# Altium schematic symbol library NodeMCU1.0.SCHLIB: 45 symbols
Pins are listed as number, name and electrical type; pins without a type are passive.

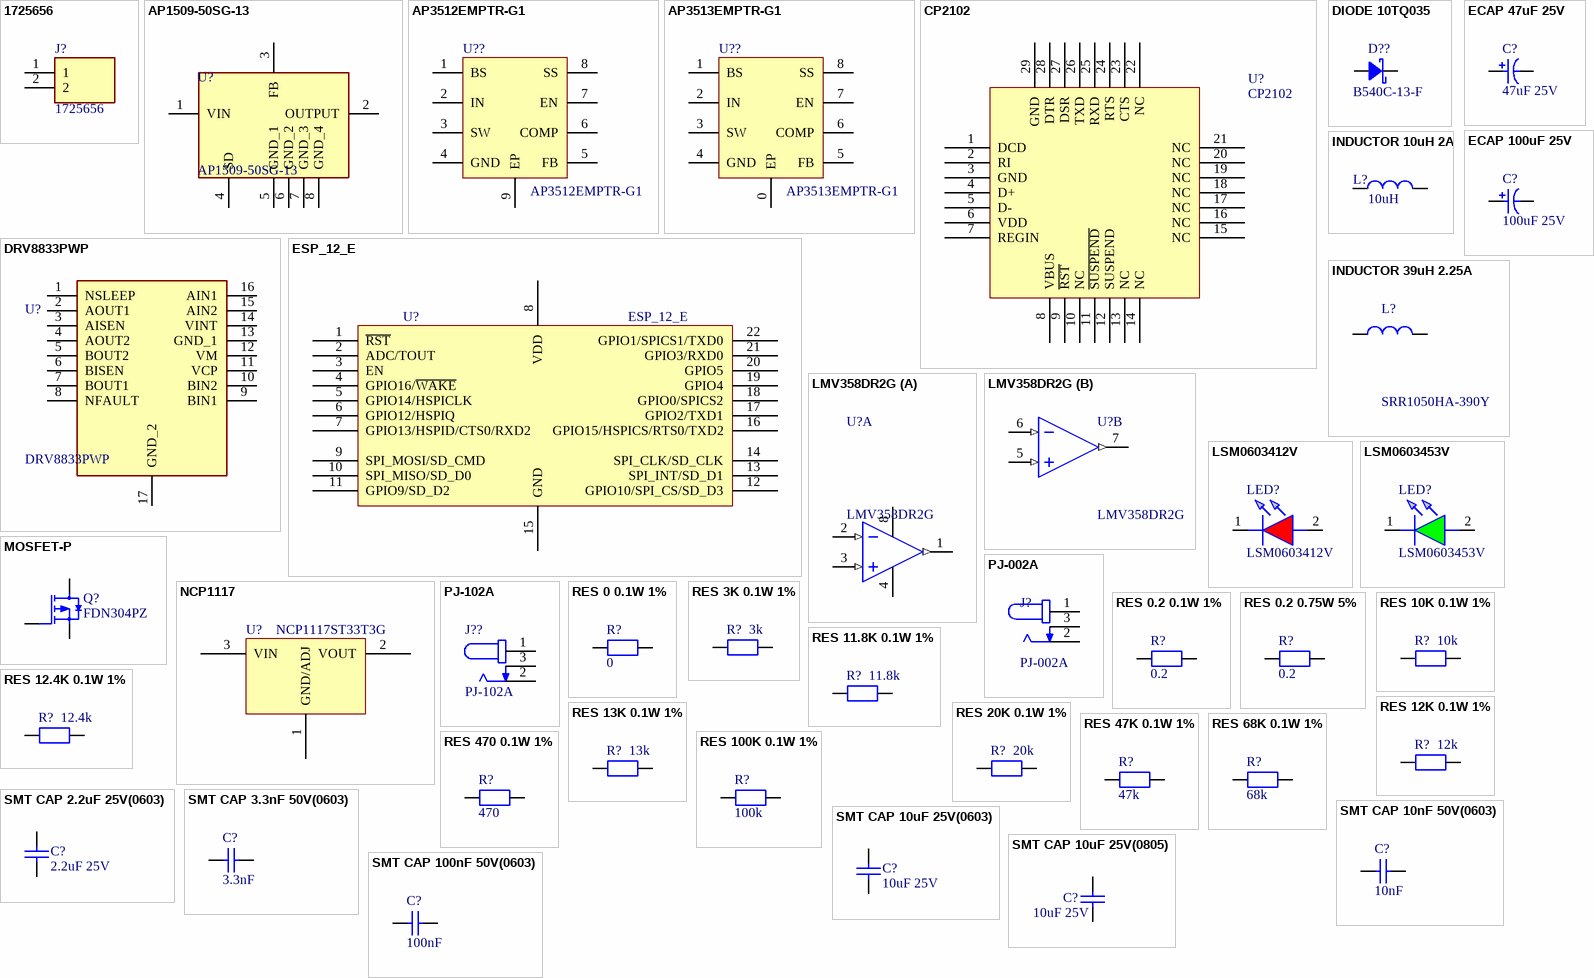
[diagram p0: symbols 1725656 to SMT CAP 100nF 50V(0603)]

## 1725656
designator J?
PCB terminal block, nominal current: 6 A, rated voltage (III/2): 160 V, nominal cross section: 0.5 mm?, Number of potentials: 2, Number of rows: 1, Number of positions per row: 2, product range: MPT 0,5, pitch: 2.54 mm, connection method: Screw connection with tension sleeve, mounting: Wave soldering, conductor/PCB connection direction: 0 ?, color: green, Pin layout: Linear pinning, Solder pin [P]: 3.5 mm, type of packaging: packed in cardboard; Manufacturer: Phoenix Contact; Supplier Part Number: 651-1725656; Supplier: Mouser; Manufacturer Part Number: 1725656; Value: 1725656; Price: 1.96
footprint 1725656
pins: 1, 2

## AP1509-50SG-13
designator U?
DiodesZetex, AP1509-50SG-13 DC-DC Converter 2A 8-Pin, SOP; Manufacturer: Diodes Inc.; Supplier Part Number: 621-AP1509-50SG-13; Supplier: Mouser; Manufacturer Part Number: AP1509-50SG-13; Price: 1.2; Value: AP1509-50SG-13
footprint SOIC127P600X175-8N
pins: 1 VIN, 2 OUTPUT, 3 FB, 4 SD, 5 GND_1, 6 GND_2, 7 GND_3, 8 GND_4

## AP3512EMPTR-G1
designator U??
Buck Switching Regulator IC Positive Adjustable 0.925V 1 Output 2A 8-SOIC (0.154", 3.90mm Width) Exposed Pad; Manufacturer: Diodes; Manufacturer Part Number: AP3512EMPTR-G1; Supplier: Digi-key; Supplier Part Number: AP3512EMPTR-G1DITR-ND; Value: AP3512EMPTR-G1; Price: 0.6
footprint SOIC127P600X155-9N
pins: 1 BS, 2 IN, 3 SW, 4 GND, 5 FB, 6 COMP, 7 EN, 8 SS, 9 EP

## AP3513EMPTR-G1
designator U??
Switching Voltage Regulators 18V 3A Sync Buck DC/DC 4.5V to 18V; Manufacturer: Diodes; Manufacturer Part Number: AP3513EMPTR-G1; Supplier: Mouser; Supplier Part Number: 621-AP3513EMPTR-G1; Value: AP3513EMPTR-G1; Price: *
footprint SOIC-8(EP)
pins: 0 EP, 1 BS, 2 IN, 3 SW, 4 GND, 5 FB, 6 COMP, 7 EN, 8 SS

## CP2102
designator U?
USB Interface IC USBXpress - USB to UART Bridge QFN28; Manufacturer Part Number: CP2102N-A02-GQFN28; Manufacturer: Silicon Labs; Value: CP2102N-A02-GQFN28; Supplier Part Number: 634-CP2102NA02GQFN28; Supplier: Mouser; Price: 3.75
footprint CP2102
pins: 1 DCD, 2 RI, 3 GND, 4 D+, 5 D-, 6 VDD, 7 REGIN, 8 VBUS, 9 ~{RST}, 10 NC, 11 ~{SUSPEND}, 12 SUSPEND, 13 NC, 14 NC, 15 NC, 16 NC, 17 NC, 18 NC, 19 NC, 20 NC, 21 NC, 22 NC, 23 CTS, 24 RTS, 25 RXD, 26 TXD, 27 DSR, 28 DTR, 29 GND

## DIODE 10TQ035
designator D??, comment B540C-13-F
DIODE SCHOTTKY 40V 5A SMC; Manufacturer: Diodes; Value: B540C-13-F; Manufacturer Part Number: B540C-13-F; Supplier: Mouser; Supplier Part Number: 621-B540C-F; Price: 0.5
footprint B540C-13-F
pins: A, K

## DRV8833PWP
designator U?
Motor/Motion/Ignition Controllers & Drivers 2A LO VLTG BIPOLAR STEPPER MOTOR DRIVER; Manufacturer: Texas Instruments; Supplier Part Number: 595-DRV8833PWP; Supplier: Mouser; Manufacturer Part Number: DRV8833PW; Price: 3; Value: DRV8833PWP
footprint SOP65P640X120-17N
pins: 1 NSLEEP, 2 AOUT1, 3 AISEN, 4 AOUT2, 5 BOUT2, 6 BISEN, 7 BOUT1, 8 NFAULT, 9 BIN1, 10 BIN2, 11 VCP, 12 VM, 13 GND_1, 14 VINT, 15 AIN2, 16 AIN1, 17 GND_2

## ECAP 47uF 25V
designator C?, comment 47uF 25V
Aluminium Electrolytic Capacitors - Radial Leaded 25V 47uF 85C 2k Hour Radial; Manufacturer: Kemet; Manufacturer Part Number: ESK476M025AC3FA; Value: 47uF 25V; Supplier: mouser; Supplier Part Number: 80-ESK476M025AC3FA; Price: 0.25
footprint CAPPRD250W50D630H1250
pins: 1, 2

## ECAP 100uF 25V
designator C?, comment 100uF 25V
Aluminium Electrolytic Capacitors - Radial Leaded 25V 100uF 85C 2k Hour Radial; Manufacturer: Kemet; Manufacturer Part Number: ESK107M025AE3AA; Value: 100uF 25V; Supplier: mouser; Supplier Part Number: 80-ESK107M025AE3AA; Price: 0.24
footprint CAPPRD250W50D630H1250
pins: 1, 2

## ESP_12_E
designator U?
ESP-12 Wi-Fi Module by AI-Thinker; Manufacturer Part Number: ESP-12E; Manufacturer: china; Value: ESP-12E; Price: 1.46
footprint ESP_12_E (ESP-12 Wi-Fi Module by AI-Thinker)
footprint ESP_12_E_L (ESP-12 Wi-Fi Module by AI-Thinker)
pins: 1 ~{RST} "Reset", 2 ADC/TOUT "ADC Input Or TOUT Output", 3 EN "Chip enable", 4 GPIO16/~{WAKE} "GPIO16 or Deep-Sleep Wakeup", 5 GPIO14/HSPICLK "GPIO14 or SPI CLK", 6 GPIO12/HSPIQ "GPIO12 or SPIQ", 7 GPIO13/HSPID/CTS0/RXD2 "GPIO13 or SPID", 8 VDD "Power supply", 9 SPI_MOSI/SD_CMD "GPIO14 or SPI CLK", 10 SPI_MISO/SD_D0 "GPIO12 or SPIQ", 11 GPIO9/SD_D2 "GPIO13 or SPID", 12 GPIO10/SPI_CS/SD_D3 "GPIO15 or SPICS", 13 SPI_INT/SD_D1 "GPIO2 or TX", 14 SPI_CLK/SD_CLK "GPIO0 or SPICS2", 15 GND "Power ground", 16 GPIO15/HSPICS/RTS0/TXD2 "GPIO15 or SPICS", 17 GPIO2/TXD1 "GPIO2 or TX", 18 GPIO0/SPICS2 "GPIO0 or SPICS2", 19 GPIO4 "GPIO5", 20 GPIO5 "GPIO4", 21 GPIO3/RXD0 "GPIO3 or UART RXD", 22 GPIO1/SPICS1/TXD0 "GPIO1 or UART TXD"

## INDUCTOR 10uH 2A
designator L?, comment 10uH
FIXED IND 10UH 2.1A 72.8 MOHM; Manufacturer Part Number: NRS5040T100MMGJ; Manufacturer: Taiyo Yuden; Supplier: Mouser; Supplier Part Number: 963-NRS5040T100MMGJ; Value: 10uH
simulation model INDUCTOR (Inductor)
signal-integrity model Inductor
footprint NRS5040T100MMGJ
pins: 1, 2

## INDUCTOR 39uH 2.25A
designator L?, comment SRR1050HA-390Y
Ind,10x10.2x4.8mm,39uH+/-30%,2.25A,shd; Manufacturer: Bourns; Value: 39uH 2.25A; Supplier Part Number: 652-SRR1050HA-390Y; Supplier: Mouser; Manufacturer Part Number: SRR1050HA-390Y; Price: 1.44
footprint INDPM102100X510N
pins: 1, 2

## LMV358DR2G
designator U?
Operational Amplifiers - Op Amps LV R2R DUAL OP AMP; Manufacturer: onsemi; Supplier Part Number: 863-LMV358DR2G; Supplier: Mouser; Manufacturer Part Number: LMV358DR2G; Price: 0.6; Value: LMV358DR2G
footprint SOIC127P600X175-8N
part A pins: 1 OUT_A (out), 2 IN_A- (in), 3 IN_A+ (in), 4 V-, 8 V+
part B pins: 5 IN_B+ (in), 6 IN_B- (in), 7 OUT_B (out)

## LSM0603412V
designator LED?
Standard LEDs - SMD SMD 0603 2V 100mcd RED; Manufacturer: Visual Communications Company; Supplier Part Number: 593-LSM0603412V; Supplier: Mouser; Manufacturer Part Number: LSM0603412V; Value: LSM0603412V; Price: 0.4
footprint LSM0603412V
pins: 1 K, 2 A

## LSM0603453V
designator LED?
Standard LEDs - SMD SMD 0603 3V 1000mcd GREEN; Manufacturer: Visual Communications Company; Supplier Part Number: 593-LSM0603453V; Supplier: Mouser; Manufacturer Part Number: LSM0603453V; Price: 0.4; Value: LSM0603453V
footprint LEDC1608X55N
pins: 1 K, 2 A

## MOSFET-P
designator Q?, comment FDN304PZ
MOSFET P-Ch PowerTrench Specified 1.8V; Manufacturer: onsemi / Fairchild; Supplier Part Number: 512-FDN304PZ; Supplier: Mouser; Manufacturer Part Number: FDN304PZ; Value: FDN304PZ; Price: 0.6
simulation model PMOS (MOSFET-P)
footprint SOT95P251X112-3N
pins: 1 G, 2 S, 3 D

## NCP1117
designator U?, comment NCP1117ST33T3G
LDO Voltage Regulators 3.3V 1A Positive; Manufacturer: onsemi; Manufacturer Part Number: NCP1117ST33T3G; Supplier Part Number: 863-NCP1117ST33T3G; Supplier: Mouser; Value: NCP1117ST33T3G; Price: 0.68
footprint SOT-223 (3 LEAD SOT-223 PLASTIC PACKAGE)
pins: 1 GND/ADJ "Ground or Adjust", 2 VOUT "Voltage Output", 3 VIN "Voltage Input"

## PJ-002A
designator J?
CONN PWR JACK 2X5.5MM SOLDER; Manufacturer: CUI Devices; Supplier Part Number: 490-PJ-002A; Supplier: Mouser; Manufacturer Part Number: PJ-002A; Value: PJ-002A; Price: 0.7
footprint PJ002A
pins: 1, 2, 3

## PJ-102A
designator J??
CONN PWR JACK 2X5.5MM SOLDER; Manufacturer: CUI Devices; Manufacturer Part Number: PJ-102A; Value: PJ-102A; Supplier: Digi-Key; Supplier Part Number: CP-102A-ND
footprint CUI_PJ-102A
pins: 1, 2, 3

## RES 0 0.1W 1%
designator R?, comment 0
Thick Film Resistors - SMD 0 Ohms 100mW 0603 1%; Manufacturer: Yageo; Manufacturer Part Number: RC0603FR-070RL; Value: 0; Supplier: Mouser; Supplier Part Number: 603-RC0603FR-070RL; Price: 0.1
footprint SMT_R_0603 (RESISTOR SMD 0603)
pins: 1, 2

## RES 0.2 0.1W 1%
designator R?, comment 0.2
Thick Film Resistors - SMD 0.2 Ohms 100mW 0603 1%; Manufacturer: Yageo; Manufacturer Part Number: RC0603FR-070R2L; Value: 0.2; Supplier: Mouser; Supplier Part Number: 603-RC0603FR-070R2L; Price: 0.1
footprint SMT_R_0603 (RESISTOR SMD 0603)
pins: 1, 2

## RES 0.2 0.75W 5%
designator R?, comment 0.2
Current Sense Resistors 200 mOhms 750mW 5 % 600 ppm/C AEC-Q200; Manufacturer: Yageo; Manufacturer Part Number: RL2010JK-070R2L; Value: 0.2; Supplier: Mouser; Supplier Part Number: 603-RL2010JK-070R2L; Price: 0.65
footprint RESC5025X65N
pins: 1, 2

## RES 3K 0.1W 1%
designator R?, comment 3k
Thick Film Resistors - SMD 3 kOhms 100mW 0603 1%; Manufacturer: Yageo; Manufacturer Part Number: RC0603FR-073KL; Value: 3k; Supplier: Mouser; Supplier Part Number: 603-RC0603FR-073KL; Price: 0.1
footprint SMT_R_0603 (RESISTOR SMD 0603)
pins: 1, 2

## RES 10K 0.1W 1%
designator R?, comment 10k
Thick Film Resistors - SMD 10 kOhms 100mW 0603 1%; Manufacturer: Yageo; Manufacturer Part Number: RC0603FR-0710KL; Value: 10k; Supplier: Mouser; Supplier Part Number: 603-RC0603FR-0710KL; Price: 0.1
footprint SMT_R_0603 (RESISTOR SMD 0603)
pins: 1, 2

## RES 11.8K 0.1W 1%
designator R?, comment 11.8k
Thick Film Resistors - SMD 11.8 kOhms 100mW 0603 1%; Manufacturer: Yageo; Manufacturer Part Number: RC0603FR-0711K8L; Value: 11.8k; Supplier: Mouser; Supplier Part Number: 603-RC0603FR-0711K8L; Price: 0.1
footprint SMT_R_0603 (RESISTOR SMD 0603)
pins: 1, 2

## RES 12.4K 0.1W 1%
designator R?, comment 12.4k
Thick Film Resistors - SMD 12.4 kOhms 100mW 0603 1%; Manufacturer: Yageo; Manufacturer Part Number: RC0603FR-0712K4L; Value: 12.4k; Supplier: Mouser; Supplier Part Number: 603-RC0603FR-0712K4L; Price: 0.1
footprint SMT_R_0603 (RESISTOR SMD 0603)
pins: 1, 2

## RES 12K 0.1W 1%
designator R?, comment 12k
Thick Film Resistors - SMD 12 kOhms 100mW 0603 1%; Manufacturer: Yageo; Manufacturer Part Number: RC0603FR-0712KL; Value: 12k; Supplier: Mouser; Supplier Part Number: 603-RC0603FR-0712KL; Price: 0.1
footprint SMT_R_0603 (RESISTOR SMD 0603)
pins: 1, 2

## RES 13K 0.1W 1%
designator R?, comment 13k
Thick Film Resistors - SMD 13 kOhms 100mW 0603 1%; Manufacturer: Yageo; Manufacturer Part Number: RC0603FR-0713KL; Value: 13k; Supplier: Mouser; Supplier Part Number: 603-RC0603FR-0713KL; Price: 0.1
footprint SMT_R_0603 (RESISTOR SMD 0603)
pins: 1, 2

## RES 20K 0.1W 1%
designator R?, comment 20k
Thick Film Resistors - SMD 20 kOhms 100mW 0603 1%; Manufacturer: Yageo; Manufacturer Part Number: RC0603FR-0720KL; Value: 20k; Supplier: Mouser; Supplier Part Number: 603-RC0603FR-0720KL; Price: 0.1
footprint SMT_R_0603 (RESISTOR SMD 0603)
pins: 1, 2

## RES 47K 0.1W 1%
designator R?, comment 47k
Thick Film Resistors - SMD 47 kOhms 100mW 0603 1%; Manufacturer: Yageo; Manufacturer Part Number: RC0603FR-0747KL; Value: 47k; Supplier: Mouser; Supplier Part Number: 603-RC0603FR-0747KL; Price: 0.1
footprint SMT_R_0603 (RESISTOR SMD 0603)
pins: 1, 2

## RES 68K 0.1W 1%
designator R?, comment 68k
Thick Film Resistors - SMD 68 kOhms 100mW 0603 1%; Manufacturer: Yageo; Manufacturer Part Number: RC0603FR-0768KL; Value: 68k; Supplier: Mouser; Supplier Part Number: 603-RC0603FR-0766KL; Price: 0.1
footprint SMT_R_0603 (RESISTOR SMD 0603)
pins: 1, 2

## RES 100K 0.1W 1%
designator R?, comment 100k
Thick Film Resistors - SMD 100 kOhms 100mW 0603 1%; Manufacturer: Yageo; Manufacturer Part Number: RC0603FR-07100KL; Value: 100k; Supplier: Mouser; Supplier Part Number: 603-RC0603FR-07100KL; Price: 0.1
footprint SMT_R_0603 (RESISTOR SMD 0603)
pins: 1, 2

## RES 470 0.1W 1%
designator R?, comment 470
Thick Film Resistors - SMD 470 Ohms 100mW 0603 1%; Manufacturer: Yageo; Manufacturer Part Number: RC0603FR-07470RL; Value: 470; Supplier: Mouser; Supplier Part Number: 603-RC0603FR-071KL; Price: 0.1
footprint SMT_R_0603 (RESISTOR SMD 0603)
pins: 1, 2

## SMT CAP 2.2uF 25V(0603)
designator C?, comment 2.2uF 25V
Multilayer Ceramic Capacitors MLCC - SMD/SMT 25 V 2.2 uF X5R 0603 20%; Manufacturer Part Number: CC0603MRX5R8BB225; Manufacturer: YAGEO; Supplier Part Number: 603-CC0603MRX58BB225; Supplier: Mouser; Value: 2.2uF 25V; Price: 0.6
footprint SMT_C_0603
pins: 1, 2

## SMT CAP 3.3nF 50V(0603)
designator C?, comment 3.3nF
Multilayer Ceramic Capacitors MLCC - SMD/SMT 50V 3300pF X7R 0603 10%; Manufacturer: Yageo; Manufacturer Part Number: CS0603KRX7R9BB332; Value: 3.3nF; Supplier: mouser; Supplier Part Number: 603-CS0603KRX79BB332; Price: 0.1
footprint SMT_C_0603
pins: 1, 2

## SMT CAP 10nF 50V(0603)
designator C?, comment 10nF
Multilayer Ceramic Capacitors MLCC - SMD/SMT 50V 10nF X7R 0603 10%; Manufacturer: Yageo; Manufacturer Part Number: CS0603KRX7R9BB103; Value: 10nF; Supplier: mouser; Supplier Part Number: 603-CS0603KRX79BB103; Price: 0.1
footprint SMT_C_0603
pins: 1, 2

## SMT CAP 10uF 25V(0603)
designator C?, comment 10uF 25V
Multilayer Ceramic Capacitors MLCC - SMD/SMT 25 V 10 uF X5R 0603 20%; Manufacturer Part Number: CC0603MRX5R8BB106; Manufacturer: YAGEO; Supplier Part Number: 603-CC0603MRX58BB106; Supplier: Mouser; Value: 10uF 25V; Price: 0.6
footprint SMT_C_0603
pins: 1, 2

## SMT CAP 10uF 25V(0805)
designator C?, comment 10uF 25V
Multilayer Ceramic Capacitors MLCC - SMD/SMT 25 V 10 uF X6S 0805 10%; Manufacturer Part Number: CC0805KKX6S8BB106; Manufacturer: YAGEO; Supplier Part Number: 603-CC0805KX6S8BB106; Supplier: Mouser; Value: 10uF 25V; Price: 0.5
footprint SMT_C_0805 (Surface mount capacitor 0805)
pins: 1, 2

## SMT CAP 100nF 50V(0603)
designator C?, comment 100nF
Multilayer Ceramic Capacitors MLCC - SMD/SMT 50V 100nF X7R 0603 10%; Manufacturer: Yageo; Manufacturer Part Number: CS0603KRX7R9BB104; Value: 100nF; Supplier: mouser; Supplier Part Number: 603-CS0603KRX79BB104; Price: 0.1
footprint SMT_C_0603
pins: 1, 2

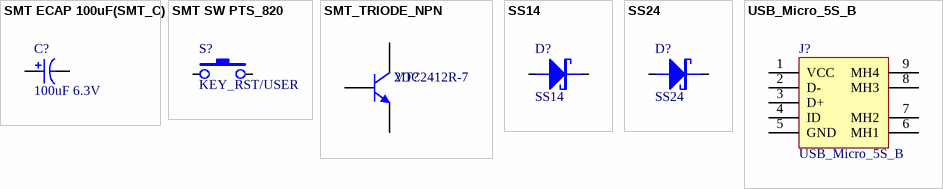
[diagram p1: symbols SMT ECAP 100uF(SMT_C) to USB_Micro_5S_B]

## SMT ECAP 100uF(SMT_C)
designator C?, comment 100uF 6.3V
Tantalum Capacitors - Solid SMD 6.3V 100uF 1210 ESR=1.7Ohms 20%; Manufacturer Part Number: TAJB107M006RNJ; Manufacturer: KYOCERA AVX; Supplier Part Number: 581-TAJB107M006R; Supplier: Mouser; Value: 100uF 6.3V; Price: 0.47
footprint SMT_C_Tantalum_B (Capacitor, SM Tantalum; Body 3.5 x 2.8 mm (LxW typ))
pins: 1, 2

## SMT SW PTS_820
designator S?, comment KEY_RST/USER
SMT Tactile ‎Switch PTS 820 Series; Manufacturer Part Number: PTS820J25MSMTRLFS; Manufacturer: C&K; Value: SMT SW; Supplier Part Number: 611-PTS820J25MSMTR; Supplier: Mouser; Price: 0.4
footprint SMT_SW_PTS_820 (SMT Switch PTS 820)
pins: 1, 2

## SMT_TRIODE_NPN
designator VT?, comment 2DC2412R-7
Bipolar Transistors - BJT 50V NPN SMT; Manufacturer: Diodes Incorporated; Manufacturer Part Number: 2DC2412R-7; Supplier Part Number: 621-2DC2412R-7; Supplier: Mouser; Value: 2DC2412R-7; Price: 0.4
footprint SMT_TRIODE_NPN (Surface mount NPN transistor, package SOT-23)
pins: 1 B, 2 E, 3 C

## SS14
designator D?
Schottky Diodes & Rectifiers SMA 40V 1.0A; Manufacturer: onsemi / Fairchild; Manufacturer Part Number: SS14; Supplier Part Number: 512-SS14; Supplier: Mouser; Value: SS14; Price: 0.38
footprint SMT_DIODE_SOD_323 (SOD-323(0805) Package)
footprint SS14
pins: 1 K, 2 A

## SS24
designator D?
Schottky Diodes & Rectifiers 2A, 40V, Schottky Rectifier; Manufacturer: Taiwan Semiconductor; Manufacturer Part Number: SS24; Supplier Part Number: 821-SS24; Supplier: Mouser; Value: SS24; Price: 0.38
footprint DIOM5436X247N
pins: 1 K, 2 A

## USB_Micro_5S_B
designator J?
USB micro female SMT with 4 fixed foot; Manufacturer Part Number: 614105150721; Manufacturer: Wurth Electronics; Value: 614105150721; Supplier Part Number: 710-614105150721; Supplier: Mouser; Price: 2
footprint USB_MICRO_5S_B (USB Micro SMT 5S B)
pins: 1 VCC, 2 D-, 3 D+, 4 ID, 5 GND, 6 MH1, 7 MH2, 8 MH3, 9 MH4